# Altium footprint library Macro Pad Library.PcbLib: 24 footprints (part 1 of 2)
Each footprint in its own frame and in the unit in brackets; x right, y up, seen from the top. Pads: shape width x height; smd on the part's side, far side on the other; paste and mask are expansions set on the pad; w line width, h text height; cw(c..) or ccw(c..) is an arc to the next point about the centre after c.
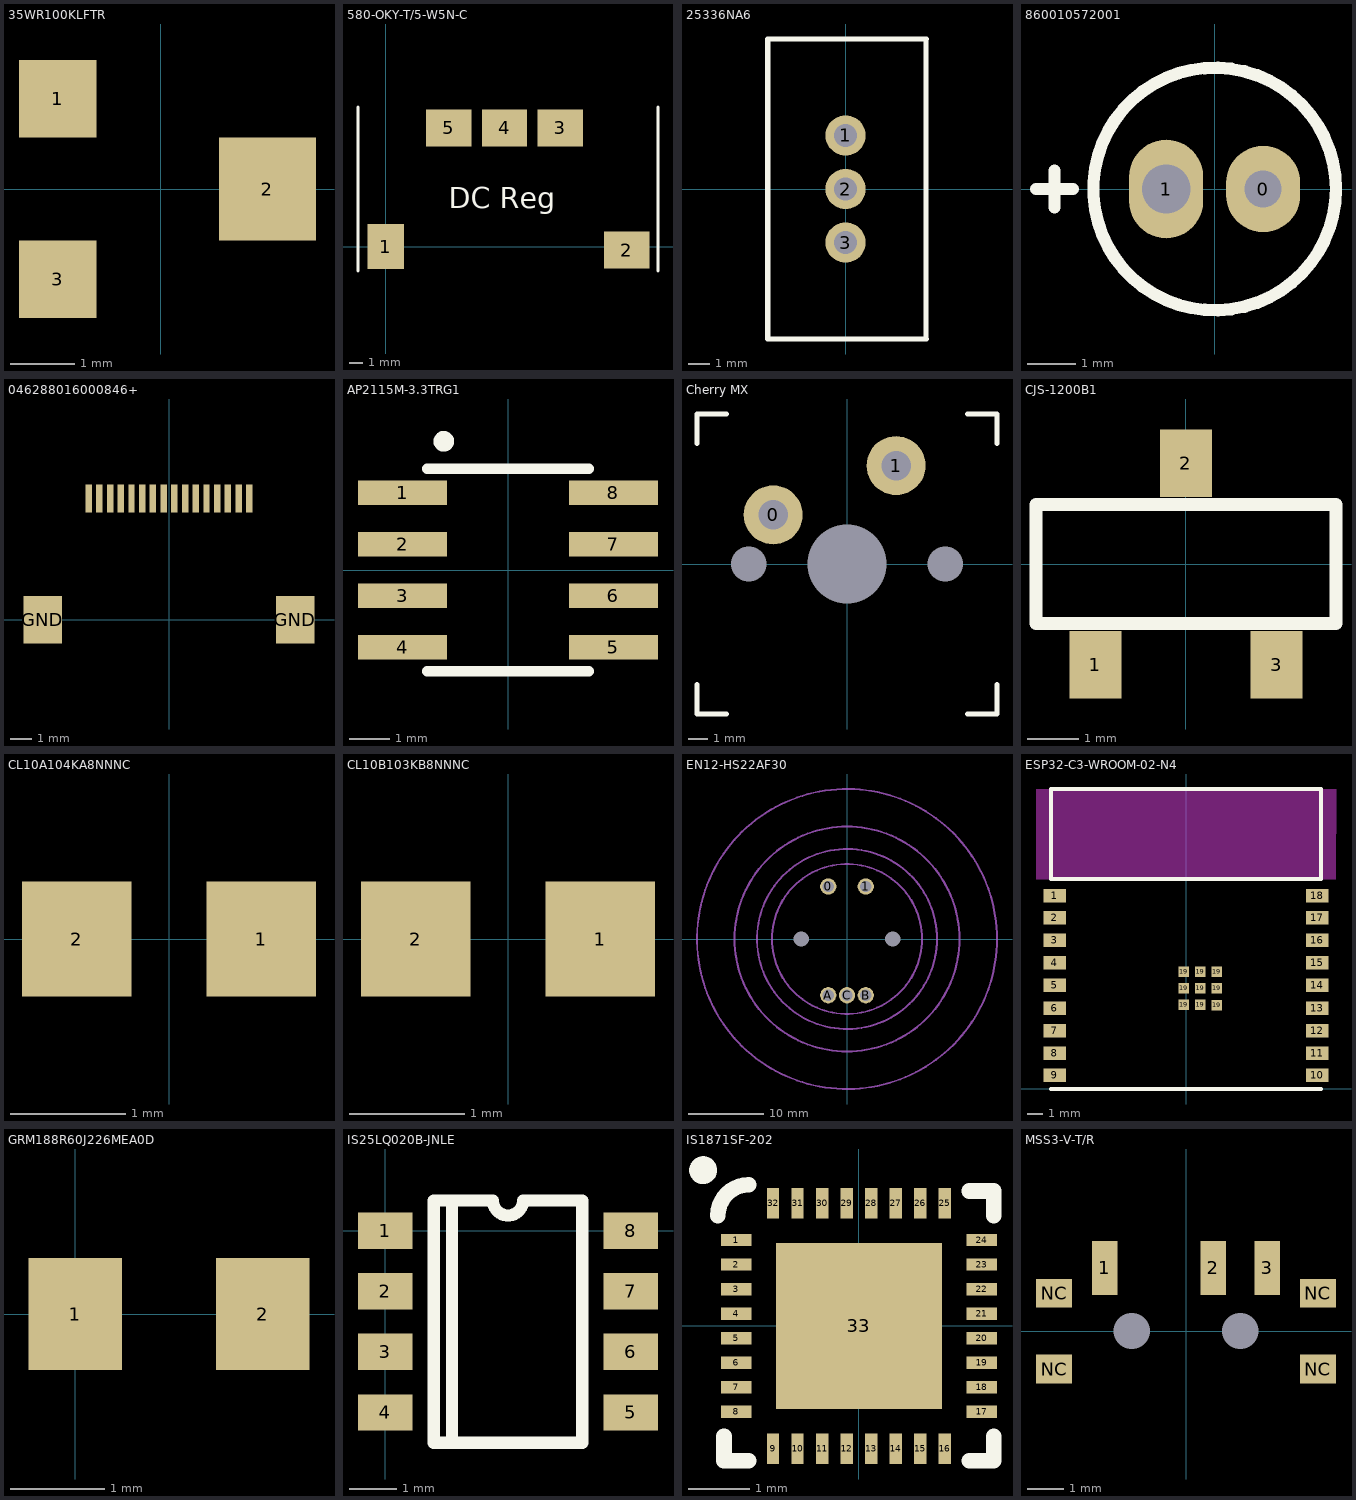
[diagram p0: the footprints below, top view; thin cyan lines are the x and y axes]

## 35WR100KLFTR [mm]
pads (3):
  rect 1.2x1.2 smd: 1(-1.6,1.4) 3(-1.6,-1.4)
  rect 1.5x1.6 smd: 2(1.65,0)
3D body "35WR100KLFTR.STEP": height 1.8, standoff 0, extent -1.8,-1.5 1.85,1.5

## 580-OKY-T/5-W5N-C [mil]
height 275.59
pads (5):
  rect 105x130 smd: 1(0,0)
  rect 130x105 smd: 2(690,-10) 3(500,340) 4(340,340) 5(180,340)
Top Overlay:
  lines w10: -80,-70 -80,400 ; 780,-70 780,400
  text "DC Reg" at 180,109.99 h60

## 25336NA6 [mm]
pads (3):
  round 1.905 hole 1.1: 1(0,2.54) 2(0,0) 3(0,-2.54)
Top Overlay:
  lines w0.254: 3.81,-7.112 3.81,7.112 ; 3.817,-7.112 -3.683,-7.112 -3.683,7.112 3.817,7.112
3D body "25336NA6.STEP": height 8.1, standoff -3.8, extent -9.75,-7.05 3.75,7.05

## 860010572001 [mil]
pads (2):
  oval 60x70 hole 30: 0(39.37,0)
  oval 60x80 hole 39.37: 1(-39.37,0)
Top Overlay:
  circle w10: c0,0 r98.43
  lines w10: -145,0 -115,0 ; -130,-15 -130,15

## 046288016000846+ [mm]
pads (18):
  rect 0.3x1.3 smd: 1(-3.75,5.65) 2(-3.25,5.65) 3(-2.75,5.65) 4(-2.25,5.65) 5(-1.75,5.65) 6(-1.25,5.65) 7(-0.75,5.65) 8(-0.25,5.65) 9(0.25,5.65) 10(0.75,5.65) 11(1.25,5.65) 12(1.75,5.65) 13(2.25,5.65) 14(2.75,5.65) 15(3.25,5.65) 16(3.75,5.65)
  rect 1.8x2.2 smd: GND(-5.9,0) GND(5.9,0)
3D body "046288016000846+.STEP": height 2, standoff 0, extent -5.9,-0.5 6.3,6

## AP2115M-3.3TRG1 [mm]
pads (8):
  rect 2.2x0.6 smd: 1(-2.6,1.905) 2(-2.6,0.635) 3(-2.6,-0.635) 4(-2.6,-1.905) 5(2.6,-1.905) 6(2.6,-0.635) 7(2.6,0.635) 8(2.6,1.905)
Top Overlay:
  circle w0.254: c-1.584,3.175 r0.127
  lines w0.254: -2,-2.5 2,-2.5 ; -2,2.5 2,2.5

## Cherry MX [mil]
pads (5):
  round 120 hole 60: 0(-150,100) 1(100,200)
  round 0 hole 160 unplated: 3(0,0)
  round 0 hole 72 unplated: 4(200,0) 5(-200,0)
Top Overlay:
  lines w10: -305,-245 -305,-305 -245,-305 ; -305,245 -305,305 -245,305 ; 245,-305 305,-305 305,-245 ; 245,305 305,305 305,245
3D body "Cherry MX.STEP": height 555.12, standoff -110.24, extent -305,-305 305,305

## CJS-1200B1 [mm]
pads (3):
  rect 1x1.3 smd: 1(-1.75,-1.95) 2(0,1.95) 3(1.75,-1.95)
Top Overlay:
  lines w0.254: -2.9,-1.15 2.9,-1.15 2.9,1.15 -2.9,1.15 -2.9,-1.15

## CL10A104KA8NNNC [mm]
pads (2):
  rect 0.95x1 smd: 1(0.8,0) 2(-0.8,0)

## CL10B103KB8NNNC [mm]
pads (2):
  rect 0.95x1 smd: 1(0.8,0) 2(-0.8,0)

## EN12-HS22AF30 [mil] "Rotary Encoder"
pads (7):
  round 85 hole 60: 0(-98.43,275.59) 1(98.43,275.59) A(-98.43,-295.28) B(98.43,-295.28) C(0,-295.28)
  round 0 hole 78.74 square unplated: 7(-240.16,0) 7(240.16,0)
Visual Layout:
  circle w10: c0,0 r787.4
  circle w10: c0,0 r590.55
  circle w10: c0,0 r472.44
  circle w10: c0,0 r393.7
  text "R=20mm" at -90,720 h40
  text "R=15mm" at -90,605 h40
  text "R=12mm" at -90,490 h40
  text "R=10mm" at -90,405 h40
3D body "EN12-HS22AF30.STEP": height 1181.1, standoff -137.8, extent -244.09,-311.02 244.09,291.34

## ESP32-C3-WROOM-02-N4 [mm]
pads (27):
  rect 1.5x0.9 smd: 1(-8.75,12.9) 2(-8.75,11.4) 3(-8.75,9.9) 4(-8.75,8.4) 5(-8.75,6.9) 6(-8.75,5.4) 7(-8.75,3.9) 8(-8.75,2.4) 9(-8.75,0.9) 10(8.75,0.9) 11(8.75,2.4) 12(8.75,3.9) 13(8.75,5.4) 14(8.75,6.9) 15(8.75,8.4) 16(8.75,9.9) 17(8.75,11.4) 18(8.75,12.9)
  rect 0.7x0.7 smd: 19(-0.14,5.6) 19(-0.14,6.7) 19(-0.14,7.8) 19(0.96,5.6) 19(0.96,6.7) 19(0.96,7.8) 19(2.06,5.6) 19(2.06,6.7) 19(2.06,7.8)
Top Overlay:
  lines w0.254: -9,0 9,0 ; -9,14 9,14 9,20 -9,20 -9,14
Keep-Out Layer:
  region: -10,20 -10,14 10,14 10,20

## GRM188R60J226MEA0D [mm]
pads (2):
  rect 1x1.2 smd: 1(0,0) 2(2,0)

## IS25LQ020B-JNLE [mil]
pads (8):
  rect 45x30 smd: 1(0,0) 2(0,-50) 3(0,-100) 4(0,-150) 5(202.5,-150) 6(202.5,-100) 7(202.5,-50) 8(202.5,0)
Top Overlay:
  lines w10: 55,-175 55,25 ; 40,-175 40,25 88.75,25 ccw(c101.25,25) 113.75,25 162.5,25 162.5,-175 40,-175

## IS1871SF-202 [mm]
pads (33):
  rect 0.5x0.2 smd: 1(-2,1.4) 2(-2,1) 3(-2,0.6) 4(-2,0.2) 5(-2,-0.2) 6(-2,-0.6) 7(-2,-1) 8(-2,-1.4) 17(2,-1.4) 18(2,-1) 19(2,-0.6) 20(2,-0.2) 21(2,0.2) 22(2,0.6) 23(2,1) 24(2,1.4)
  rect 0.2x0.5 smd: 9(-1.4,-2) 10(-1,-2) 11(-0.6,-2) 12(-0.2,-2) 13(0.2,-2) 14(0.6,-2) 15(1,-2) 16(1.4,-2) 25(1.4,2) 26(1,2) 27(0.6,2) 28(0.2,2) 29(-0.2,2) 30(-0.6,2) 31(-1,2) 32(-1.4,2)
  rect 2.7x2.7 smd paste-2539.97: 33(0,0)
Top Overlay:
  circle w0.254: c-2.54,2.54 r0.1
  lines w0.254: -2.3,1.8 cw(c-1.8,1.8) -1.8,2.3 ; -2.2,-1.8 -2.2,-2.2 -1.8,-2.2 ; 1.8,-2.2 2.2,-2.2 2.2,-1.8 ; 1.8,2.2 2.2,2.2 2.2,1.8
Top Paste:
  region: -1.27,1.27 -1.27,0.762 -0.762,0.762 -0.762,1.27

## MSS3-V-T/R [mm]
pads (9):
  rect 0.7x1.5 smd: 1(-2.25,1.75) 2(0.75,1.75) 3(2.25,1.75)
  round 0 hole 1 unplated: 26(-1.5,0) 26(1.5,0)
  rect 1x0.8 smd: NC(-3.65,-1.05) NC(-3.65,1.05) NC(3.65,-1.05) NC(3.65,1.05)